# Altium schematic symbol library XC7S25-1FTGB196C.SchLib: 1 symbol
Pins are listed as number, name and electrical type; pins without a type are passive.

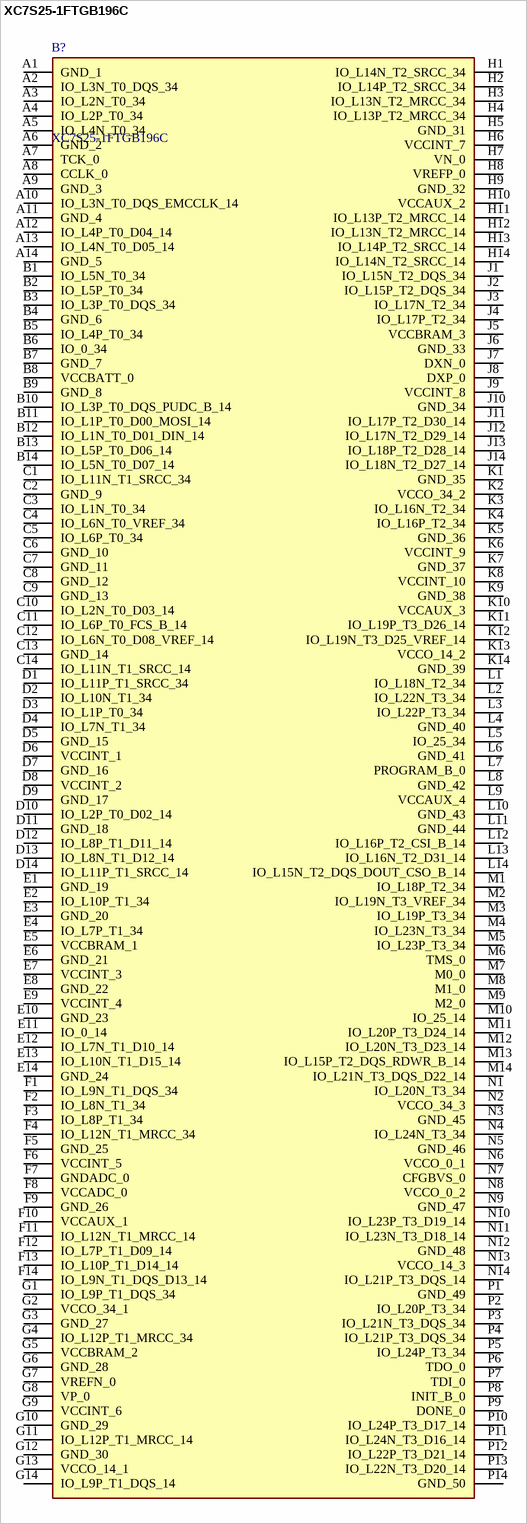
[diagram p0: symbol XC7S25-1FTGB196C]

## XC7S25-1FTGB196C
designator B?
XILINX - XC7S25-1FTGB196C - FPGA, SPARTAN-7, 100 I/O, FCBGA-196; Manufacturer_Name: AMD; Geometry.Height: 1.55mm; Manufacturer_Part_Number: XC7S25-1FTGB196C; Mouser Part Number: 217-XC7S25-1FTGB196C; Mouser Price/Stock: https://www.mouser.co.uk/ProductDetail/AMD-Xilinx/XC7S25-1FTGB196C?qs=rrS6PyfT74fJcWwIcCmb%252BA%3D%3D; Arrow Part Number: *; Arrow Price/Stock: *; Datasheet Link: https://www.xilinx.com/support/documentation/data_sheets/ds180_7Series_Overview.pdf
footprint BGA196C100P14X14_1500X1500X155
pins: A1 GND_1, A2 IO_L3N_T0_DQS_34, A3 IO_L2N_T0_34, A4 IO_L2P_T0_34, A5 IO_L4N_T0_34, A6 GND_2, A7 TCK_0, A8 CCLK_0, A9 GND_3, A10 IO_L3N_T0_DQS_EMCCLK_14, A11 GND_4, A12 IO_L4P_T0_D04_14, A13 IO_L4N_T0_D05_14, A14 GND_5, B1 IO_L5N_T0_34, B2 IO_L5P_T0_34, B3 IO_L3P_T0_DQS_34, B4 GND_6, B5 IO_L4P_T0_34, B6 IO_0_34, B7 GND_7, B8 VCCBATT_0, B9 GND_8, B10 IO_L3P_T0_DQS_PUDC_B_14, B11 IO_L1P_T0_D00_MOSI_14, B12 IO_L1N_T0_D01_DIN_14, B13 IO_L5P_T0_D06_14, B14 IO_L5N_T0_D07_14, C1 IO_L11N_T1_SRCC_34, C2 GND_9, C3 IO_L1N_T0_34, C4 IO_L6N_T0_VREF_34, C5 IO_L6P_T0_34, C6 GND_10, C7 GND_11, C8 GND_12, C9 GND_13, C10 IO_L2N_T0_D03_14, C11 IO_L6P_T0_FCS_B_14, C12 IO_L6N_T0_D08_VREF_14, C13 GND_14, C14 IO_L11N_T1_SRCC_14, D1 IO_L11P_T1_SRCC_34, D2 IO_L10N_T1_34, D3 IO_L1P_T0_34, D4 IO_L7N_T1_34, D5 GND_15, D6 VCCINT_1, D7 GND_16, D8 VCCINT_2, D9 GND_17, D10 IO_L2P_T0_D02_14, D11 GND_18, D12 IO_L8P_T1_D11_14, D13 IO_L8N_T1_D12_14, D14 IO_L11P_T1_SRCC_14, E1 GND_19, E2 IO_L10P_T1_34, E3 GND_20, E4 IO_L7P_T1_34, E5 VCCBRAM_1, E6 GND_21, E7 VCCINT_3, E8 GND_22, E9 VCCINT_4, E10 GND_23, E11 IO_0_14, E12 IO_L7N_T1_D10_14, E13 IO_L10N_T1_D15_14, E14 GND_24, F1 IO_L9N_T1_DQS_34, F2 IO_L8N_T1_34, F3 IO_L8P_T1_34, F4 IO_L12N_T1_MRCC_34, F5 GND_25, F6 VCCINT_5, F7 GNDADC_0, F8 VCCADC_0, F9 GND_26, F10 VCCAUX_1, F11 IO_L12N_T1_MRCC_14, F12 IO_L7P_T1_D09_14, F13 IO_L10P_T1_D14_14, F14 IO_L9N_T1_DQS_D13_14, G1 IO_L9P_T1_DQS_34, G2 VCCO_34_1, G3 GND_27, G4 IO_L12P_T1_MRCC_34, G5 VCCBRAM_2, G6 GND_28, G7 VREFN_0, G8 VP_0, G9 VCCINT_6, G10 GND_29, G11 IO_L12P_T1_MRCC_14, G12 GND_30, G13 VCCO_14_1, G14 IO_L9P_T1_DQS_14, H1 IO_L14N_T2_SRCC_34, H2 IO_L14P_T2_SRCC_34, H3 IO_L13N_T2_MRCC_34, H4 IO_L13P_T2_MRCC_34, H5 GND_31, H6 VCCINT_7, H7 VN_0, H8 VREFP_0, H9 GND_32, H10 VCCAUX_2, H11 IO_L13P_T2_MRCC_14, H12 IO_L13N_T2_MRCC_14, H13 IO_L14P_T2_SRCC_14, H14 IO_L14N_T2_SRCC_14, J1 IO_L15N_T2_DQS_34, J2 IO_L15P_T2_DQS_34, J3 IO_L17N_T2_34, J4 IO_L17P_T2_34, J5 VCCBRAM_3, J6 GND_33, J7 DXN_0, J8 DXP_0, J9 VCCINT_8, J10 GND_34, J11 IO_L17P_T2_D30_14, J12 IO_L17N_T2_D29_14, J13 IO_L18P_T2_D28_14, J14 IO_L18N_T2_D27_14, K1 GND_35, K2 VCCO_34_2, K3 IO_L16N_T2_34, K4 IO_L16P_T2_34, K5 GND_36, K6 VCCINT_9, K7 GND_37, K8 VCCINT_10, K9 GND_38, K10 VCCAUX_3, K11 IO_L19P_T3_D26_14, K12 IO_L19N_T3_D25_VREF_14, K13 VCCO_14_2, K14 GND_39, L1 IO_L18N_T2_34, L2 IO_L22N_T3_34, L3 IO_L22P_T3_34, L4 GND_40, L5 IO_25_34, L6 GND_41, L7 PROGRAM_B_0, L8 GND_42, L9 VCCAUX_4, L10 GND_43, L11 GND_44, L12 IO_L16P_T2_CSI_B_14, L13 IO_L16N_T2_D31_14, L14 IO_L15N_T2_DQS_DOUT_CSO_B_14, M1 IO_L18P_T2_34, M2 IO_L19N_T3_VREF_34, M3 IO_L19P_T3_34, M4 IO_L23N_T3_34, M5 IO_L23P_T3_34, M6 TMS_0, M7 M0_0, M8 M1_0, M9 M2_0, M10 IO_25_14, M11 IO_L20P_T3_D24_14, M12 IO_L20N_T3_D23_14, M13 IO_L15P_T2_DQS_RDWR_B_14, M14 IO_L21N_T3_DQS_D22_14, N1 IO_L20N_T3_34, N2 VCCO_34_3, N3 GND_45, N4 IO_L24N_T3_34, N5 GND_46, N6 VCCO_0_1, N7 CFGBVS_0, N8 VCCO_0_2, N9 GND_47, N10 IO_L23P_T3_D19_14, N11 IO_L23N_T3_D18_14, N12 GND_48, N13 VCCO_14_3, N14 IO_L21P_T3_DQS_14, P1 GND_49, P2 IO_L20P_T3_34, P3 IO_L21N_T3_DQS_34, P4 IO_L21P_T3_DQS_34, P5 IO_L24P_T3_34, P6 TDO_0, P7 TDI_0, P8 INIT_B_0, P9 DONE_0, P10 IO_L24P_T3_D17_14, P11 IO_L24N_T3_D16_14, P12 IO_L22P_T3_D21_14, P13 IO_L22N_T3_D20_14, P14 GND_50